# Altium footprint library PowerDI-123-2.PcbLib: 1 footprints
Each footprint in its own frame and in the unit in brackets; x right, y up, seen from the top. Pads: shape width x height; smd on the part's side, far side on the other; paste and mask are expansions set on the pad; w line width, h text height; cw(c..) or ccw(c..) is an arc to the next point about the centre after c.
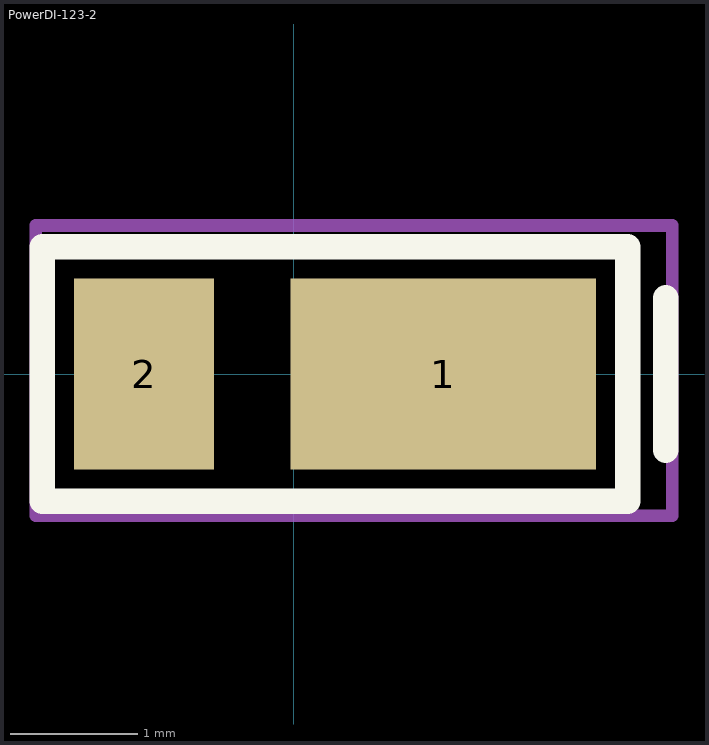
[diagram p0: the footprint, top view; thin cyan lines are the x and y axes]

## PowerDI-123-2 [mm]
pads (2):
  rect 2.4x1.5 smd: 1(1.175,0)
  rect 1.1x1.5 smd: 2(-1.175,0)
Top Overlay:
  lines w0.2: 2.925,-0.6 2.925,0.6 ; -1.975,-1 2.625,-1 2.625,1 -1.975,1 -1.975,-1
Top Courtyard:
  lines w0.1: -2.025,-1.115 -1.489,-1.115 2.975,-1.115 2.975,1.166 -2.025,1.166 -2.025,-1.115
3D body "DFLS1150-7.STEP": height 1, standoff 0, extent -1.525,-0.865 2.175,0.915